# Altium footprint library Dabs PCB file (1).PcbLib: 14 footprints
Each footprint in its own frame and in the unit in brackets; x right, y up, seen from the top. Pads: shape width x height; smd on the part's side, far side on the other; paste and mask are expansions set on the pad; w line width, h text height; cw(c..) or ccw(c..) is an arc to the next point about the centre after c.
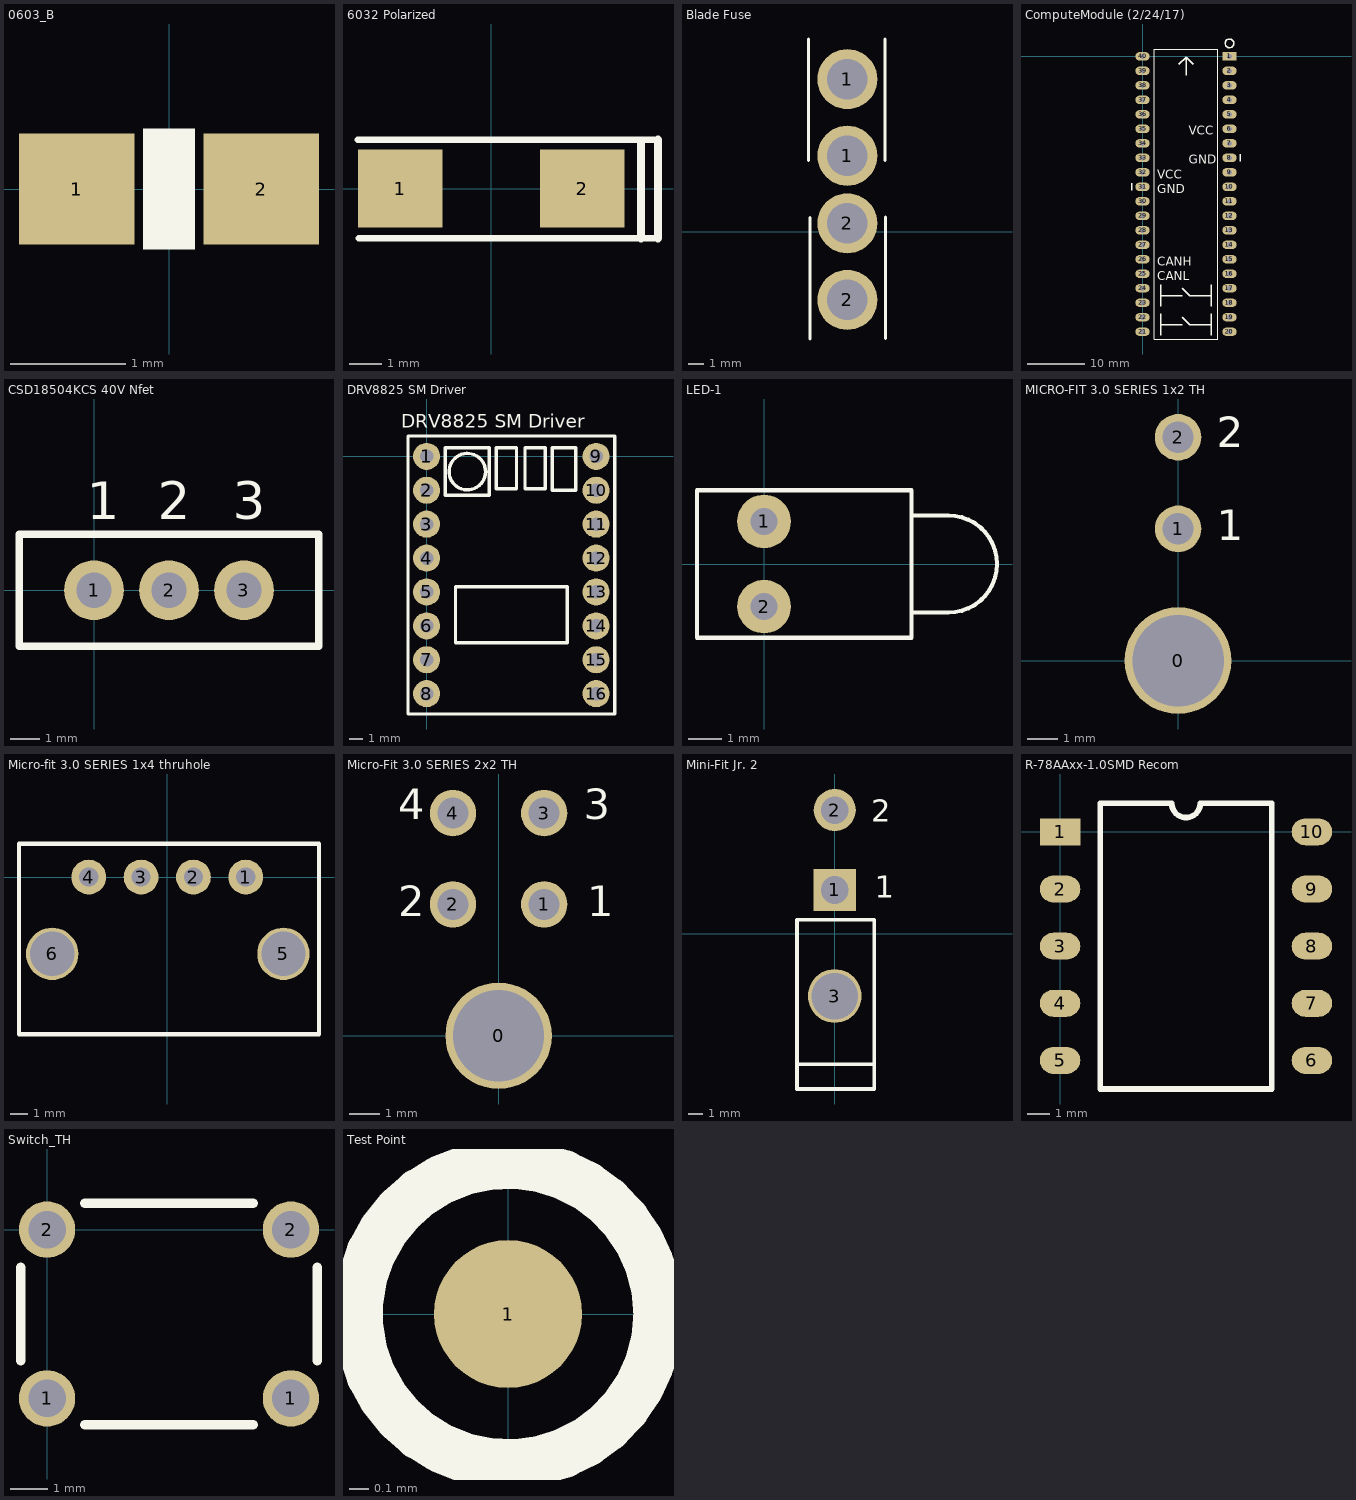
[diagram p0: the footprints below, top view; thin cyan lines are the x and y axes]

## 0603_B [mm] "0603 Style B SMT resistor"
height 0.96
pads (2):
  rect 1x0.96 smd mask+0.064: 1(-0.8,0) 2(0.8,0)
Top Overlay:
  rectangle: -0.225,-0.525 0.225,0.525
3D body "RES0603.stp": height 0.45, standoff 0, extent -0.8,-0.4 0.8,0.4

## 6032 Polarized [mm] "tantalum footprint, positive marked"
pads (2):
  rect 2.6x2.4 smd: 1(-2.8,0) 2(2.8,0)
Top Overlay:
  lines w0.2: -4.1,1.5 5.125,1.5 ; -4.075,-1.525 5.125,-1.525
  lines w0.254: 4.6,-1.525 4.6,1.425 ; 5.125,-1.525 5.125,1.5

## Blade Fuse [mm]
pads (4):
  round 4 hole 2.7 mask+0.064: 1(18.288,5.044) 1(18.288,10.144) 2(18.288,-4.556) 2(18.288,0.544)
Top Overlay:
  lines w0.2: 15.713,4.719 15.713,12.819 ; 15.788,-7.156 15.788,0.944 ; 20.788,4.719 20.788,12.819 ; 20.813,-7.131 20.813,0.969

## ComputeModule (2/24/17) [mm] "Socket for compute module"
pads (40):
  rect 2.5x1.5 / inner rect 2.5x0.9 / far side rect 2.5x1.5 hole 0.9: 1(15.24,0)
  oval 2.5x1.5 / inner oval 2.5x0.9 / far side oval 2.5x1.5 hole 0.9: 2(15.24,-2.54) 3(15.24,-5.08) 4(15.24,-7.62) 5(15.24,-10.16) 6(15.24,-12.7) 7(15.24,-15.24) 8(15.24,-17.78) 9(15.24,-20.32) 10(15.24,-22.86) 11(15.24,-25.4) 12(15.24,-27.94) 13(15.24,-30.48) 14(15.24,-33.02) 15(15.24,-35.56) 16(15.24,-38.1) 17(15.24,-40.64) 18(15.24,-43.18) 19(15.24,-45.72) 20(15.24,-48.26) 21(0,-48.26) 22(0,-45.72) 23(0,-43.18) 24(0,-40.64) 25(0,-38.1) 26(0,-35.56) 27(0,-33.02) 28(0,-30.48) 29(0,-27.94) 30(0,-25.4) 31(0,-22.86) 32(0,-20.32) 33(0,-17.78) 34(0,-15.24) 35(0,-12.7) 36(0,-10.16) 37(0,-7.62) 38(0,-5.08) 39(0,-2.54) 40(0,0)
Top Overlay:
  circle w0.254: c15.24,2.286 r0.762
  lines w0.2: 2.085,-49.53 13.155,-49.53 13.155,1.27 6.985,1.27 2.085,1.27 2.085,-49.53
  lines w0.254: -1.905,-23.495 -1.905,-22.225 ; 3.175,-48.895 3.175,-45.085 ; 3.175,-46.99 6.35,-46.99 6.985,-46.99 ; 3.175,-43.815 3.175,-40.005 ; 3.175,-41.91 6.35,-41.91 6.985,-41.91 ; 6.35,-1.397 7.62,-0.127 ; 6.985,-45.72 8.255,-46.99 8.89,-46.99 12.065,-46.99 ; 6.985,-40.64 8.255,-41.91 8.89,-41.91 12.065,-41.91 ; 7.62,-3.302 7.62,-0.127 ; 8.89,-1.397 7.62,-0.127 ; 12.065,-48.895 12.065,-45.085 ; 12.065,-43.815 12.065,-40.005 ; 17.145,-18.415 17.145,-17.145
  text "VCC" at 2.54,-21.463 h1.52
  text "GND" at 2.54,-24.003 h1.52
  text "VCC" at 8.128,-13.716 h1.52
  text "GND" at 8.128,-18.796 h1.52
  text "CANL" at 2.54,-39.243 h1.52
  text "CANH" at 2.54,-36.703 h1.52
3D body "Header Female 1x10.STEP": height 8.29, standoff -3.59, extent -1.205,-24.13 1.27,1.87
3D body "Header Female 1x10.STEP": height 8.29, standoff -3.59, extent -1.205,-49.53 1.27,-23.53
3D body "Header Female 1x10.STEP": height 8.29, standoff -3.59, extent 14.035,-24.13 16.51,1.87
3D body "Header Female 1x10.STEP": height 8.29, standoff -3.59, extent 14.035,-49.53 16.51,-23.53
3D body "ComputeModule.step": height 17.95, standoff 2, extent -1.905,-49.53 17.145,9.961

## CSD18504KCS 40V Nfet [mil]
pads (3):
  round 80 hole 47: 1(0,0) 2(100,0) 3(200,0)
Top Overlay:
  lines w10: -100,-75 300,-75 300,75 -100,75 -100,-75
  text "3" at 185,95 h50
  text "2" at 85,95 h50
  text "1" at -10,95 h50

## DRV8825 SM Driver [mil]
pads (16):
  round 80 hole 40: 1(0,0) 2(0,-100) 3(0,-200) 4(0,-300) 5(0,-400) 6(0,-500) 7(0,-600) 8(0,-700) 9(500,0) 10(500,-100) 11(500,-200) 12(500,-300) 13(500,-400) 14(500,-500) 15(500,-600) 16(500,-700)
Top Overlay:
  circle w10: c120,-45 r53.85
  lines w10: -55,-760 555,-760 555,60 -55,60 -55,-760 ; 55,-115 55,25 185,25 185,-115 55,-115 ; 85,-550 85,-385 415,-385 415,-550 85,-550 ; 205,-95 205,25 265,25 265,-95 205,-95 ; 290,-95 350,-95 350,25 290,25 290,-95 ; 370,-100 370,25 440,25 440,-100 370,-100
  text "DRV8825 SM Driver" at -75,85 h40

## LED-1 [mm] "Typical RED GaAs LED; 2 Leads"
pads (2):
  round 1.6 hole 0.8: 1(0,1.27) 2(0,-1.27)
Top Overlay:
  lines w0.127: 4.4,-1.45 5.5,-1.45 ccw(c5.5,0) 5.5,1.45 4.4,1.45 ; -2,-2.2 -2,2.2 4.4,2.2 4.4,-2.2 -2,-2.2

## MICRO-FIT 3.0 SERIES 1x2 TH [mm]
pads (3):
  round 3.5 hole 3: 0(0,0)
  round 1.524 hole 1.02: 1(0,4.32) 2(0,7.32)
Top Overlay:
  text "1" at 1.27,3.937 h1
  text "2" at 1.27,6.985 h1
3D body "MicroFit 3.0 1x2.stp": height 8.83, standoff -3.12, extent -3.594,-4.596 3.556,7.644

## Micro-fit 3.0 SERIES 1x4 thruhole [mm] "Right angle"
height 5.57
pads (6):
  round 2 hole 1.1: 1(4.5,0) 2(1.5,0) 3(-1.5,0) 4(-4.5,0)
  round 3 hole 2.54 unplated: 5(6.66,-4.4) 6(-6.6,-4.4)
Top Overlay:
  lines w0.254: -8.5,-9 8.7,-9 8.7,1.9 -8.5,1.9 -8.5,-9
3D body "436500403.stp": height 5.55, standoff -3.2, extent -7.825,-8.9 7.825,1

## Micro-Fit 3.0 SERIES 2x2 TH [mm]
pads (5):
  round 3.5 hole 3: 0(0,0)
  round 1.524 hole 1.02: 1(1.5,4.32) 2(-1.5,4.32) 3(1.5,7.32) 4(-1.5,7.32)
Top Overlay:
  text "4" at -3.302,7.112 h1
  text "3" at 2.794,7.112 h1
  text "2" at -3.302,3.937 h1
  text "1" at 2.921,3.937 h1
3D body "MicroFit 3.0 2x2 TH.stp": height 8.83, standoff -3.12, extent -5.075,-4.696 5.075,7.544

## Mini-Fit Jr. 2 [mm]
pads (3):
  rect 2.9x2.9 hole 1.9: 1(0,3)
  round 2.9 hole 1.9: 2(0,8.5)
  round 3.7 hole 3.2: 3(0,-4.3)
Top Overlay:
  lines w0.254: -2.6,-9 2.625,-9 ; -2.6,0.95 -2.6,-10.7 2.7,-10.7 ; -2.575,0.95 2.725,0.95 2.725,-10.7
  text "1" at 2.765,2.455 h1.52
  text "2" at 2.5,7.7 h1.52
3D body "039300020.stp": height 11.4, standoff -3.6, extent -2.6,-10.867 3.2,9.068

## R-78AAxx-1.0SMD Recom [mm]
pads (10):
  rect 1.8x1.2 smd: 1(0,0)
  oval 1.8x1.2 smd: 2(0,-2.54) 3(0,-5.08) 4(0,-7.62) 5(0,-10.16) 6(11.2,-10.16) 7(11.2,-7.62) 8(11.2,-5.08) 9(11.2,-2.54) 10(11.2,0)
Top Overlay:
  lines w0.254: 1.789,-11.43 9.411,-11.43 9.411,1.27 6.235,1.27 cw(c5.6,1.27) 4.965,1.27 1.789,1.27 1.789,-11.43

## Switch_TH [mm] "B3F-1000"
pads (4):
  round 1.5 hole 1: 1(0,-4.5) 1(6.5,-4.5) 2(0,0) 2(6.5,0)
Top Overlay:
  lines w0.254: -0.7,-3.5 -0.7,-1 ; 1,-5.2 5.5,-5.2 ; 1,0.7 5.5,0.7 ; 7.2,-3.5 7.2,-1
3D body "tactileswitch-short.STEP": height 4.95, standoff -3.38, extent -0.543,-5.29 7.148,0.718

## Test Point [mil] "Round Pad for Probing"
pads (1):
  round 30 smd: 1(0,0)
Top Overlay:
  circle w10: c0,0 r30.41